# EAGLE library part LT8631 (library HyTechDevices)
LT8631 100V, 1A DC-DC Regulator Datasheet <https://www.mouser.com/datasheet/2/609/8631fb-1271396.pdf>
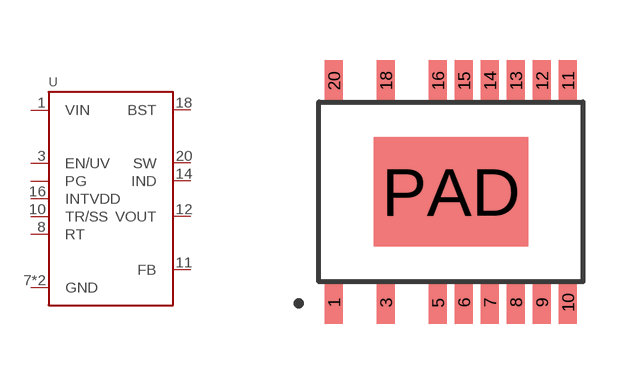
[diagram p38: symbol with the pads of FE20(16); footprint FE20(16)]

Designator prefix U

## LT8631 (DKPN: LT8631EFE#TRPBFCT-ND; MANUFACTURER: Analog Devices Inc.; MOPN: 584-LT8631EFE#PBF; MPN: LT8631EFE#TRPBF)  [FE20(16)]
1  VIN  in
3  EN/UV  in
7  GND  pwr
8  RT  pas
10  TR/SS  pas
11  FB  in
12  VOUT  out
14  IND  in
16  INTVDD  out
18  BST  in
20  SW  out
PAD  GND  pwr

## Footprint FE20(16) (pad centres in mm)
FE20(16) A variation of TSSOP-20 with an exposed pad and 4 pins removed. Datasheet <https://www.analog.com/media/en/package-pcb-resources/package/pkg_pdf/ltc-legacy-tssop/05081924_0_fe20(16)(cb).pdf>
smd 0.45 x 1.05: 1 -2.925,-2.775; 3 -1.625,-2.775; 5 -0.325,-2.775; 6 0.325,-2.775; 7 0.975,-2.775; 8 1.625,-2.775; 9 2.275,-2.775; 10 2.925,-2.775; 11 2.925,2.775; 12 2.275,2.775; 13 1.625,2.775; 14 0.975,2.775; 15 0.325,2.775; 16 -0.325,2.775; 18 -1.625,2.775; 20 -2.925,2.775
smd 3.86 x 2.74: PAD 0,0